# Altium integrated library Z80 Card for Commodore C64.IntLib: 11 symbols
Pins are listed as number, name and electrical type; pins without a type are passive.

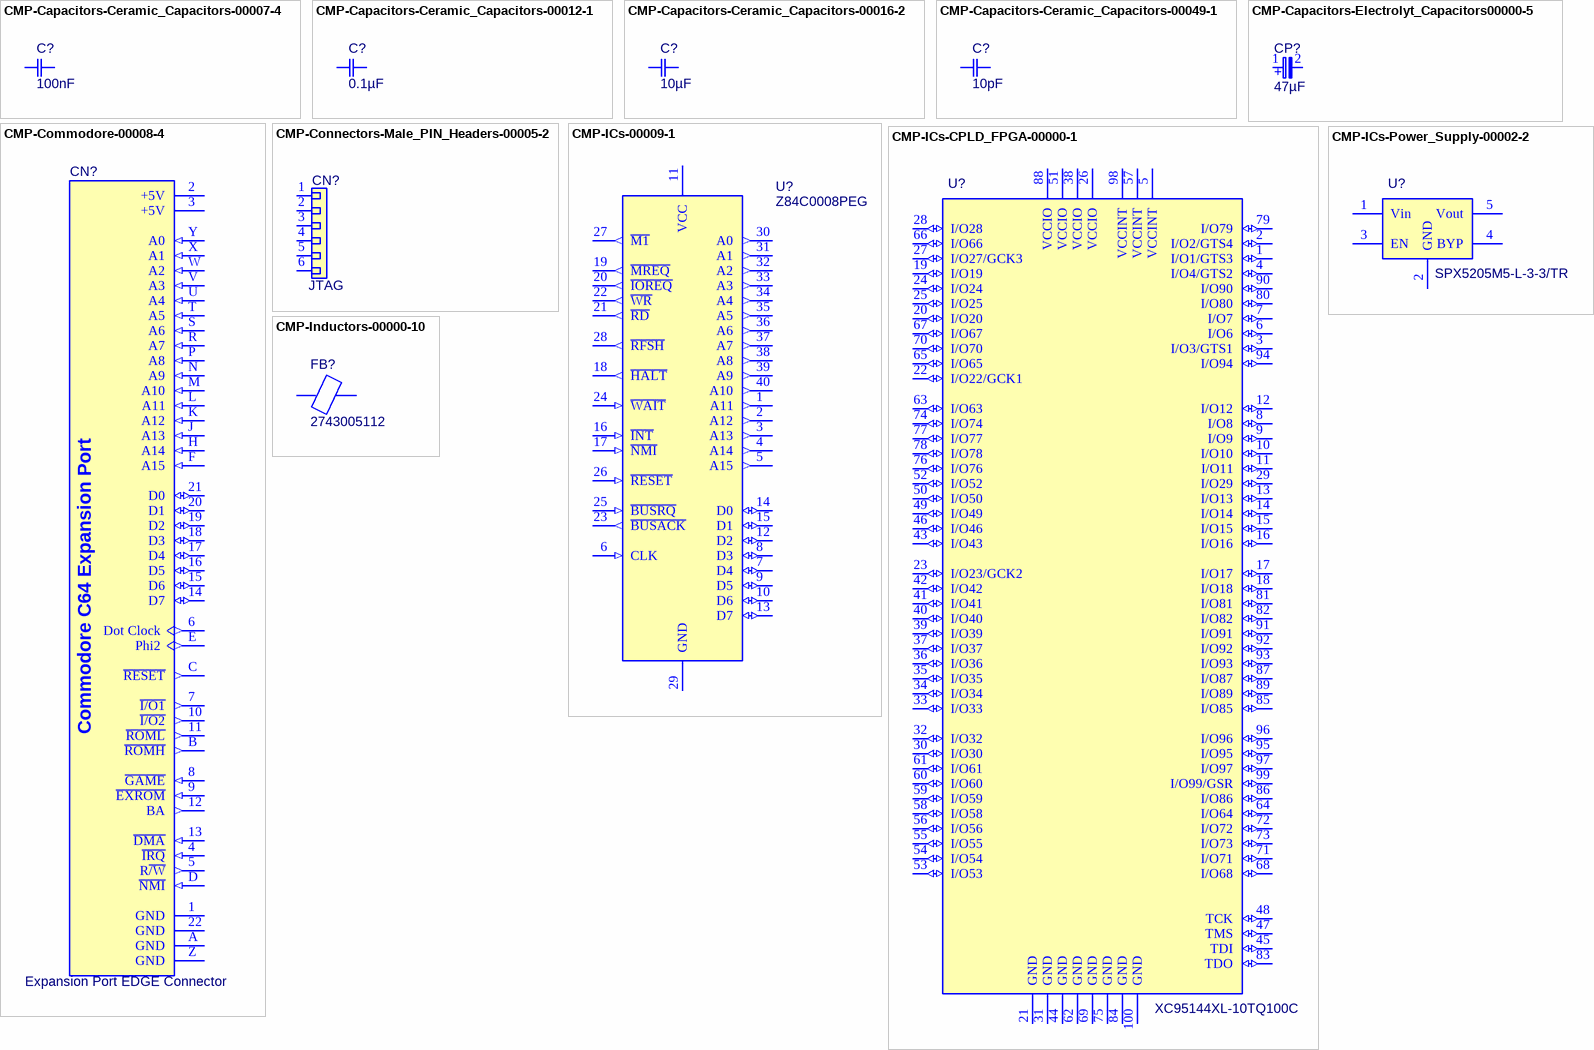
[diagram p0: symbols CMP-Capacitors-Ceramic_Capacitors-00007-4 to CMP-Inductors-00000-10]

## CMP-Capacitors-Ceramic_Capacitors-00007-4
designator C?, comment 100nF
Ceramic Disc Capacitors 100nF -20%~+80% 50V Through Hole,P=2.54mm RoHS; ComponentLink1URL: https://lcsc.com/product-detail/Others_Dersonic-CC1H104ZA1PD3F5O3000_C353909.html; Component Type: Ceramic Capacitors
footprint CAP Disc 100nF P2.54mm D5.5mm T3mm
pins: 1, 2

## CMP-Capacitors-Ceramic_Capacitors-00012-1
designator C?, comment 0.1µF
KEMET         C0603C104J3RACTU             SMD Multilayer Ceramic Capacitor, 0603 [1608 Metric], 0.1 F, 25 V,  5%, X7R, C Series; Voltage Rating (DC): 25V; Capacitance: 100nF; Height: 0.8mm; Dielectric: X7R; Case Code (Metric): 1608; Width: 0.031inch; Depth: 0.8mm; Min Operating Temperature: -55°C; Number of Pins: 2; Mount: Surface Mount,PCB; REACH SVHC: No SVHC; Packaging: Tape and Reel; Case Code (Imperial): 0603; Contact Plating: Tin,Matte; Length: 1.6mm; Case/Package: 0603; Lead Pitch: 0.7mm; Package Quantity: 4000; Tolerance: 5%; Radiation Hardening: No; Dielectric Material: Ceramic; Voltage: 25V; Termination: SMD/SMT; Voltage Rating: 25V; Thickness: 0.034inch; Max Operating Temperature: 125°C; Manufacturer: KEMET; Manufacturer Part Number: C0603C104J3RACTU; Component Type: Ceramic Capacitors
footprint CAP 100nF SMD 0603 C0603C104J3RACTU (Chip Capacitor, 2-Leads, Body 1,60x0,80mm, IPC Medium Density)
pins: 1, 2

## CMP-Capacitors-Ceramic_Capacitors-00016-2
designator C?, comment 10µF
KEMET - C0805C106K8RACTU - CAP, 10µF, 10V, 10%, X7R, 0805; Dissipation Factor: 7.5%; Dielectric Material: Ceramic; Capacitance: 10uF; Max Operating Temperature: 125°C; Packaging: Tape and Reel; Case Code (Imperial): 0805; Depth: 1.25mm; Voltage: 10V; Voltage Rating (DC): 10V; Mount: Surface Mount,PCB; Min Operating Temperature: -55°C; Case Code (Metric): 2012; Case/Package: 0805; Thickness: 0.055inch; Termination: SMD/SMT; Voltage Rating: 10V; Height: 1.25mm; Dielectric: X7R; Width: 1.2mm; Package Quantity: 1; Length: 2mm; REACH SVHC: No SVHC; Tolerance: 10%; Manufacturer: KEMET; Manufacturer Part Number: C0805C106K8RACTU; Component Type: Ceramic Capacitors
footprint Kemet C0805CxxxK8RACTU Series H=1.4mm
pins: 1, 2

## CMP-Capacitors-Ceramic_Capacitors-00049-1
designator C?, comment 10pF
CAP CER 10PF 25V C0G/NP0 RADIAL; Manufacturer: KEMET; Manufacturer Part Number: C315C100J3G5TA; Component Type: Ceramic Capacitors
footprint CAP CER 10PF 25V C0G-NP0 RADIAL Kemet C315C100J3G5TA
pins: 1, 2

## CMP-Capacitors-Electrolyt_Capacitors00000-5
designator CP?, comment 47µF
Aluminum Electrolytic Capacitors - Leaded 47uF 105c; Manufacturer: Nichicon; Manufacturer Part Number: UMF1C470MDD1TP; Ripple Current: 115mA; Impedance: 1.3R; Life (Hours): 1000Hour; Voltage Rating: 16V; Tolerance: 20%; Height - Seated (Max): 0.236inch; Package Quantity: 2000; Lead Pitch: 0.098inch; Case/Package: Radial; Capacitance: 47uF; Max Operating Temperature: 105°C; Mount: Through Hole; Termination: Radial; Packaging: Tape and Reel; Min Operating Temperature: -55°C; Length: 5mm; Voltage Rating (DC): 16V; Component Type: Electrolyt Capacitors
footprint CAP 47µF16V D6mm H6.3mm P2.5mm
pins: 1, 2
text: +

## CMP-Commodore-00008-4
designator CN?, comment Expansion Port EDGE Connector  (no BOM)
Expansion Port EDGE Connector for Interface Cards; Component Type: Commodore
footprint C64 Expansion Port EDGE Connector
pins: 1 GND (power), 2 +5V (power), 3 +5V (power), 4 ~{IRQ} (in), 5 R~{/W} (out), 6 Dot Clock (out), 7 ~{I/O1} (out), 8 ~{GAME} (in), 9 ~{EXROM} (in), 10 ~{I/O2} (out), 11 ~{ROML} (out), 12 BA (out), 13 ~{DMA} (in), 14 D7 (io), 15 D6 (io), 16 D5 (io), 17 D4 (io), 18 D3 (io), 19 D2 (io), 20 D1 (io), 21 D0 (io), 22 GND (power), A GND (power), B ~{ROMH} (out), C ~{RESET} (out), D ~{NMI} (in), E Phi2 (out), F A15 (in), H A14 (in), J A13 (in), K A12 (in), L A11 (in), M A10 (in), N A9 (in), P A8 (in), R A7 (in), S A6 (in), T A5 (in), U A4 (in), V A3 (in), W A2 (in), X A1 (in), Y A0 (in), Z GND (power)
text: Commodore C64 Expansion Port

## CMP-Connectors-Male_PIN_Headers-00005-2
designator CN?, comment JTAG
CONN HEADER VERT 6POS 2.54MM; Manufacturer: Sullins; Manufacturer Part Number: PRPC006SFAN-RC; Connector Type: Male Pin; Pitch: 0.1inch; Number of Positions: 6; Packaging: Bulk; Termination: Solder; Package Quantity: 1; Contact Mating Length: 0.318inch; Contact Plating: Gold; Color: Black; Mount: Through Hole; Number of Rows: 1; Component Type: Male PIN Headers
footprint Pin Header 01x06 2.54mm Horizontal Male
pins: 1, 2, 3, 4, 5, 6

## CMP-ICs-00009-1
designator U?, comment Z84C0008PEG
IC MPU Z80 8MHZ 40DIP; Manufacturer: Ixys Zilog; Memory Size: 64KB; Core Architecture: Z8; Data Bus Width: 8b; Memory Type: ROMless; Max Supply Voltage: 5V; Number of I/Os: 24; Min Supply Voltage: 4.5V; Max Operating Temperature: 100°C; Mount: Through Hole; REACH SVHC: Unknown; Lead Free: Lead Free; Case/Package: DIP; Max Frequency: 8MHz; Frequency: 8MHz; Length: 62.74mm; Height: 4.19mm; Radiation Hardening: No; Packaging: Rail/Tube; Number of Pins: 40; Voltage: 5V; Min Operating Temperature: -40°C; Width: 14.22mm; Package Quantity: 10; Manufacturer Part Number: Z84C0008PEG; Component Type: ICs
footprint Zilog Z80 CPU with Socket
footprint Zilog Z80 CPU
pins: 1 A11 (out), 2 A12 (out), 3 A13 (out), 4 A14 (out), 5 A15 (out), 6 CLK (in), 7 D4 (io), 8 D3 (io), 9 D5 (io), 10 D6 (io), 11 VCC (power), 12 D2 (io), 13 D7 (io), 14 D0 (io), 15 D1 (io), 16 ~{INT} (in), 17 ~{NMI} (in), 18 ~{HALT} (out), 19 ~{MREQ} (out), 20 ~{IOREQ} (out), 21 ~{RD} (out), 22 ~{WR} (out), 23 ~{BUSACK} (out), 24 ~{WAIT} (in), 25 ~{BUSRQ} (in), 26 ~{RESET} (in), 27 ~{M1} (out), 28 ~{RFSH} (out), 29 GND (power), 30 A0 (out), 31 A1 (out), 32 A2 (out), 33 A3 (out), 34 A4 (out), 35 A5 (out), 36 A6 (out), 37 A7 (out), 38 A8 (out), 39 A9 (out), 40 A10 (out)

## CMP-ICs-CPLD_FPGA-00000-1
designator U?, comment XC95144XL-10TQ100C
IC CPLD 144MC 7.5NS 100TQFP; Manufacturer: Xilinx; Manufacturer Part Number: XC95144XL-7TQ100C; Speed Grade: 7; Operating Supply Voltage: 3.3V; Max Supply Voltage: 3.6V; Number of Gates: 3200; Min Supply Voltage: 3V; Number of I/Os: 81; Number of Macrocells: 144; Number of Logic Blocks (LABs): 8; Max Frequency: 125MHz; Memory Type: FLASH; Turn-On Delay Time: 7.5ns; Mount: Surface Mount; Number of Pins: 100; Propagation Delay: 7.5ns; Package Quantity: 90; Case/Package: LQFP; Contact Plating: Tin,Lead; Packaging: Tray; Lead Free: Contains Lead; Min Operating Temperature: 0°C; Number of Logic Elements/Cells: 8; Max Operating Temperature: 70°C; Component Type: CPLD-FPGA
footprint TQFP-100 P0.5mm XC95144XL-7TQ100C (TSQFP, 100-Leads, Body 14,00x14,00mm, Pitch 0,50mm, IPC Medium Density)
pins: 1 I/O1/GTS3 (io), 2 I/O2/GTS4 (io), 3 I/O3/GTS1 (io), 4 I/O4/GTS2 (io), 5 VCCINT (power), 6 I/O6 (io), 7 I/O7 (io), 8 I/O8 (io), 9 I/O9 (io), 10 I/O10 (io), 11 I/O11 (io), 12 I/O12 (io), 13 I/O13 (io), 14 I/O14 (io), 15 I/O15 (io), 16 I/O16 (io), 17 I/O17 (io), 18 I/O18 (io), 19 I/O19 (io), 20 I/O20 (io), 21 GND, 22 I/O22/GCK1 (io), 23 I/O23/GCK2 (io), 24 I/O24 (io), 25 I/O25 (io), 26 VCCIO (power), 27 I/O27/GCK3 (io), 28 I/O28 (io), 29 I/O29 (io), 30 I/O30 (io), 31 GND, 32 I/O32 (io), 33 I/O33 (io), 34 I/O34 (io), 35 I/O35 (io), 36 I/O36 (io), 37 I/O37 (io), 38 VCCIO (power), 39 I/O39 (io), 40 I/O40 (io), 41 I/O41 (io), 42 I/O42 (io), 43 I/O43 (io), 44 GND, 45 TDI (io), 46 I/O46 (io), 47 TMS (io), 48 TCK (io), 49 I/O49 (io), 50 I/O50 (io), 51 VCCIO (power), 52 I/O52 (io), 53 I/O53 (io), 54 I/O54 (io), 55 I/O55 (io), 56 I/O56 (io), 57 VCCINT (power), 58 I/O58 (io), 59 I/O59 (io), 60 I/O60 (io), 61 I/O61 (io), 62 GND, 63 I/O63 (io), 64 I/O64 (io), 65 I/O65 (io), 66 I/O66 (io), 67 I/O67 (io), 68 I/O68 (io), 69 GND, 70 I/O70 (io), 71 I/O71 (io), 72 I/O72 (io), 73 I/O73 (io), 74 I/O74 (io), 75 GND, 76 I/O76 (io), 77 I/O77 (io), 78 I/O78 (io), 79 I/O79 (io), 80 I/O80 (io), 81 I/O81 (io), 82 I/O82 (io), 83 TDO (io), 84 GND, 85 I/O85 (io), 86 I/O86 (io), 87 I/O87 (io), 88 VCCIO (power), 89 I/O89 (io), 90 I/O90 (io), 91 I/O91 (io), 92 I/O92 (io), 93 I/O93 (io), 94 I/O94 (io), 95 I/O95 (io), 96 I/O96 (io), 97 I/O97 (io), 98 VCCINT (power), 99 I/O99/GSR (io), 100 GND

## CMP-ICs-Power_Supply-00002-2
designator U?, comment SPX5205M5-L-3-3/TR
LDO Regulator Pos 3.3V 0.15A 5-Pin SOT-23 T/R; Manufacturer: Exar; Min Input Voltage: 2.5V; Number of Outputs: 1; Dropout Voltage: 210mV; Accuracy: 1%; Polarity: Positive; Max Input Voltage: 16V; Output Type: Fixed; Output Current: 150mA; Quiescent Current: 1uA; Packaging: Tape and Reel; Lead Free: Lead Free; Case/Package: SOT-23; Height: 1.15mm; Number of Regulators: 1; Max Operating Temperature: 125°C; Min Operating Temperature: -40°C; Output Voltage: 3.3V; Width: 1.6mm; Radiation Hardening: No; Mount: Surface Mount; Length: 2.9mm; Max Output Current: 150mA; Min Output Voltage: 3.3V; Number of Pins: 5; Manufacturer Part Number: SPX5205M5-L-3-3/TR; Component Type: Power Supplies
footprint SOT-23-5
pins: 1 Vin (power), 2 GND (power), 3 EN, 4 BYP, 5 Vout (power)

## CMP-Inductors-00000-10
designator FB?, comment 2743005112
Ferrite Beads Axial 91Ohm 100MHz T/R; Manufacturer: Fair-Rite; Impedance: 91R; Shielding: Unshielded; Min Operating Temperature: -55°C; Test Frequency: 100MHz; Termination: Axial; Max Operating Temperature: 125°C; Package Quantity: 4500; Diameter: 3.5mm; Packaging: Tape and Reel; Case/Package: Axial; Length: 6mm; Manufacturer Part Number: 2743005112; Component Type: Displays
footprint Ferrite Bead Fair Rite 2743005112 (FERRITE BEAD AXIAL 1LN)
footprint Ferrite Bead Fair Rite 2743005112 axial 10,16mm (FERRITE BEAD AXIAL 1LN)
pins: 1, 2